# EAGLE library part TCA9546A (library Group_08_Library)
The TCA9546A is a quad bidirectional translating switch controlled via the I2C bus. The SCL/SDA upstream pair fans out to four downstream pairs, or channels. Any individual SCn/SDn channel or combination of channels can be selected, determined by the contents of the programmable control register. An active-low reset (RESET) input allows the TCA9546A to recover from a situation in which one of the downstream I 2C buses is stuck in a low state. Pulling RESET low resets the I 2C state machine and causes all the channels to be deselected, as does the internal power-on reset function. The pass gates of the switches are constructed such that the VCC pin can be used to limit the maximum high voltage, which will be passed by the TCA9546A. This allows the use of different bus voltages on each pair, so that 1.8-V, 2.5-V, or 3.3-V parts can communicate with 5-V parts without any additional protection. External pull-up resistors pull the bus up to the desired voltage level for each channel. All I/O pins are 5.5-V tolerant. Features 1-of-4 Bidirectional translating switches I2C Bus and SMBus compatible Active-low reset input Three address pins, allowing up to eight TCA9546A devices on the I 2C bus Channel selection via I 2C Bus, in any combination Power-up with all switch channels deselected Low RON switches Allows voltage-level translation between 1.8-V, 2.5-V, 3.3-V, and 5-V buses No glitch on power-up Supports hot insertion Low standby current Operating power-supply voltage range of 1.65 V to 5.5 V 5.5 V Tolerant inputs 0 to 400-kHz Clock frequency Latch-up performance exceeds 100 mA Per JESD 78 ESD Protection exceeds JESD 22 4000-V Human-body model (A114-A) 1500-V Charged-device model (C101)
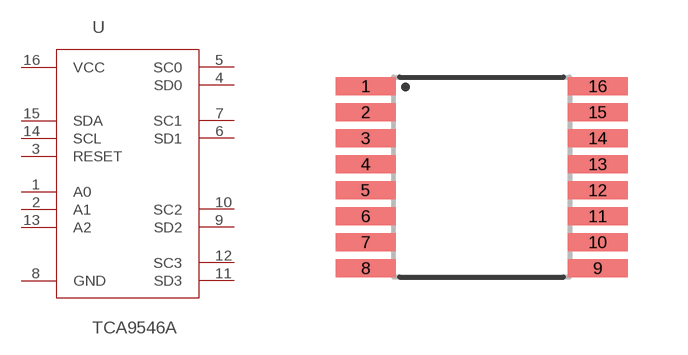
[diagram p1: symbol with the pads of TSSOP-16; footprint TSSOP-16]

Designator prefix -

## TCA9546ATSSOP  [TSSOP-16]
1  A0
2  A1
3  RESET
4  SD0
5  SC0
6  SD1
7  SC1
8  GND
9  SD2
10  SC2
11  SD3
12  SC3
13  A2
14  SCL
15  SDA
16  VCC

## Footprint TSSOP-16 (pad centres in mm)
smd 1.5 x 0.45: 1 -2.9,2.275; 2 -2.9,1.625; 3 -2.9,0.975; 4 -2.9,0.325; 5 -2.9,-0.325; 6 -2.9,-0.975; 7 -2.9,-1.625; 8 -2.9,-2.275; 9 2.9,-2.275; 10 2.9,-1.625; 11 2.9,-0.975; 12 2.9,-0.325; 13 2.9,0.325; 14 2.9,0.975; 15 2.9,1.625; 16 2.9,2.275